# Altium schematic symbol library PAM2306AYPKE.SchLib: 1 symbol
Pins are listed as number, name and electrical type; pins without a type are passive.

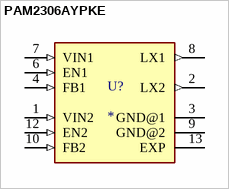
[diagram p0: symbol PAM2306AYPKE]

## PAM2306AYPKE
designator U?
Buck Switching Regulator IC Positive Fixed 1.8V, 3.3V 2 Output 1A 12-WFDFN Exposed Pad; MP: PAM2306AYPKE; MF: Diodes Inc.; Value: *; Package: WFDFN-12 Diodes Inc.; Price: None; SnapEDA_Link: https://www.snapeda.com/parts/PAM2306AYPKE/Diodes%20Inc./view-part/481908/?ref=snap; Availability: Unavailable
footprint PAM2306AYPKE
pins: 1 VIN2 (in), 2 LX2 (out), 3 GND@1 (power), 4 FB1 (in), 6 EN1 (in), 7 VIN1 (in), 8 LX1 (out), 9 GND@2 (power), 10 FB2 (in), 12 EN2 (in), 13 EXP (power)